# Altium footprint library SOT127P798X216-8N.PcbLib: 1 footprints
Each footprint in its own frame and in the unit in brackets; x right, y up, seen from the top. Pads: shape width x height; smd on the part's side, far side on the other; paste and mask are expansions set on the pad; w line width, h text height; cw(c..) or ccw(c..) is an arc to the next point about the centre after c.
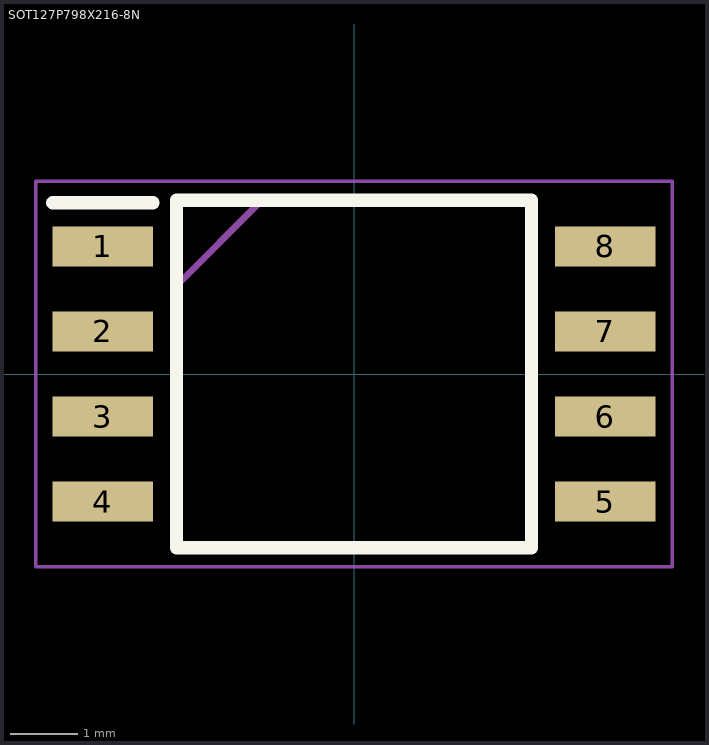
[diagram p0: the footprint, top view; thin cyan lines are the x and y axes]

## SOT127P798X216-8N [mm]
pads (8):
  rect 1.5x0.6 smd: 1(-3.75,1.905) 2(-3.75,0.635) 3(-3.75,-0.635) 4(-3.75,-1.905) 5(3.75,-1.905) 6(3.75,-0.635) 7(3.75,0.635) 8(3.75,1.905)
L26-Silk Screen Top (Multiple PADS layers...):
  lines w0.2: -4.5,2.555 -3,2.555 ; -2.65,-2.595 -2.65,2.595 2.65,2.595 2.65,-2.595 -2.65,-2.595
L15 (Multiple PADS layers...):
  lines w0.1: -2.645,1.325 -1.375,2.595 ; -2.645,-2.595 -2.645,2.595 2.645,2.595 2.645,-2.595 -2.645,-2.595
L20:
  lines w0.05: -4.75,-2.875 -4.75,2.875 4.75,2.875 4.75,-2.875 -4.75,-2.875